# Altium schematic symbol library TPS54283.SchLib: 1 symbol
Pins are listed as number, name and electrical type; pins without a type are passive.

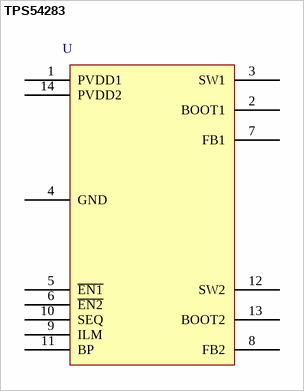
[diagram p0: symbol TPS54283]

## TPS54283
designator U  (value not drawn)
footprint TSSOP14
pins: 1 PVDD1, 2 BOOT1, 3 SW1, 4 GND, 5 ~{EN1}, 6 ~{EN2}, 7 FB1, 8 FB2, 9 ILM, 10 SEQ, 11 BP, 12 SW2, 13 BOOT2, 14 PVDD2